# Altium footprint library 主控器件封装库.PcbLib: 24 footprints (part 2 of 2)
Each footprint in its own frame and in the unit in brackets; x right, y up, seen from the top. Pads: shape width x height; smd on the part's side, far side on the other; paste and mask are expansions set on the pad; w line width, h text height; cw(c..) or ccw(c..) is an arc to the next point about the centre after c.
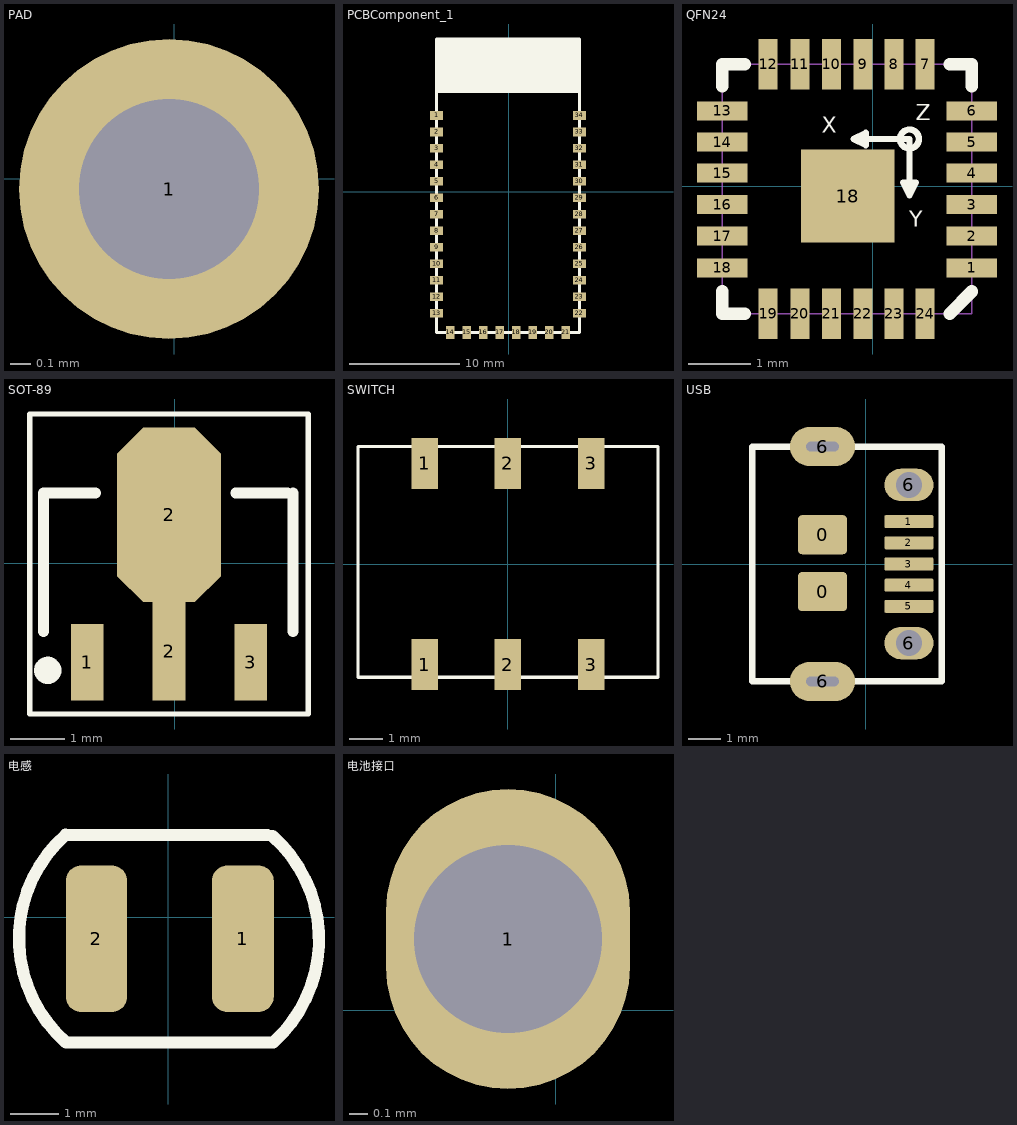
[diagram p1: the footprints below, top view; thin cyan lines are the x and y axes]

## PAD [mm]
pads (1):
  round 1.5 hole 0.9: 1(-0.025,-0.051)

## PCBComponent_1 [mm]
pads (34):
  rect 1.2x0.8 smd: 1(-6.576,6.954) 2(-6.576,5.454) 3(-6.576,3.954) 4(-6.576,2.454) 5(-6.576,0.954) 6(-6.576,-0.546) 7(-6.576,-2.046) 8(-6.576,-3.546) 9(-6.576,-5.046) 10(-6.576,-6.546) 11(-6.576,-8.046) 12(-6.576,-9.546) 13(-6.576,-11.046) 22(6.424,-11.046) 23(6.424,-9.546) 24(6.424,-8.046) 25(6.424,-6.546) 26(6.424,-5.046) 27(6.424,-3.546) 28(6.424,-2.046) 29(6.424,-0.546) 30(6.424,0.954) 31(6.424,2.454) 32(6.424,3.954) 33(6.424,5.454) 34(6.424,6.954)
  rect 0.8x1.2 smd: 14(-5.326,-12.796) 15(-3.826,-12.796) 16(-2.326,-12.796) 17(-0.826,-12.796) 18(0.674,-12.796) 19(2.174,-12.796) 20(3.674,-12.796) 21(5.174,-12.796)
Top Overlay:
  rectangle: -6.576,9.104 6.424,13.904
  lines w0.254: -6.576,9.104 6.424,9.104 ; -6.576,-12.796 -6.576,13.904 6.424,13.904 6.424,-12.796 -6.576,-12.796
3D body: height 4.31, standoff 0, extent -6.627,-12.827 6.373,14.173

## QFN24 [mil]
pads (25):
  rect 32x12 smd: 1(62.49,-51.74) 2(62.49,-31.74) 3(62.49,-11.74) 4(62.49,8.1) 5(62.49,27.79) 6(62.49,47.47) 13(-95.25,47.47) 14(-95.25,27.79) 15(-95.25,8.1) 16(-95.25,-11.74) 17(-95.25,-31.74) 18(-95.25,-51.74)
  rect 12x32 smd: 7(32.96,77) 8(13.28,77) 9(-6.41,77) 10(-26.25,77) 11(-46.25,77) 12(-66.25,77) 19(-66.25,-80.74) 20(-46.25,-80.74) 21(-26.25,-80.74) 22(-6.41,-80.74) 23(13.28,-80.74) 24(32.96,-80.74)
  rect 59.06x59.06 smd: 18(-16.01,-6.31)
Top Overlay:
  circle w4: c23.12,29.75 r6
  lines w4: -12.31,29.75 23.12,29.75 23.12,-5.74 ; -12.31,29.75 -4.44,33.69 -4.44,25.82 -12.31,29.75 ; 23.12,-5.74 27.06,2.2 19.18,2.2 23.12,-5.74
  lines w8: -95.25,-66.74 -95.25,-80.74 -81.25,-80.74 ; -95.25,63.22 -95.25,77 -81.25,77 ; 48.71,-80.74 62.49,-66.74 ; 48.71,77 62.49,77 62.49,63.22
  text "X" at -32.25,33.69 h10.2
  text "Y" at 23.12,-25.74 h10.2
  text "Z" at 27.06,41.57 h10.2
Mechanical 4:
Mechanical 16:
  lines w1: -95.25,-80.74 62.49,-80.74 62.49,77 -95.25,77 -95.25,-80.74
3D body: height 34.92, standoff -0.51, extent -90.37,-77.85 59.02,71.49

## SOT-89 [mm]
pads (4):
  rect 0.6x1.4 smd: 1(-1.605,-1.816) 3(1.395,-1.816)
  rect 0.6x1.8 smd: 2(-0.105,-1.616)
  oct 1.9x3.2 smd: 2(-0.105,0.884)
Top Overlay:
  circle w0.25: c-2.328,-1.966 r0.125
  lines w0.1: -2.655,-2.766 -2.655,2.734 2.445,2.734 2.445,-2.766 -2.655,-2.766
  lines w0.2: -2.405,-1.253 -2.405,1.284 -1.455,1.284 ; 1.118,1.284 2.068,1.284 ; 2.167,-1.253 2.167,1.284
3D body: height 1.51, standoff 0, extent -2.337,-2.099 2.163,2.201

## SWITCH [mil]
pads (6):
  rect 31.5x60 smd: 1(-98.43,-119) 1(-98.43,119) 2(0,-119) 2(0,119) 3(98.43,-119) 3(98.43,119)
Top Overlay:
  lines w3.94: -177.43,-134 177.57,-134 177.57,139 -177.43,139 -177.43,-134
3D body: height 214.57, standoff 0, extent -177.57,-133.65 178.72,138

## USB [mm]
pads (11):
  rrect20% 1.5x1.2 smd: 0(-1.325,-0.848) 0(-1.325,0.898)
  rrect20% 1.5x0.4 smd: 1(1.325,1.3) 2(1.325,0.65) 3(1.325,0) 4(1.325,-0.65) 5(1.325,-1.3)
  oval 2x1.2 hole 0.3 slot 1 at 0 deg: 6(-1.325,-3.6) 6(-1.325,3.6)
  oval 1.5x1 hole 0.8: 6(1.325,-2.425) 6(1.325,2.425)
Top Overlay:
  lines w0.2: -3.475,-3.6 2.325,-3.6 2.325,3.6 -3.475,3.6 -3.475,-3.6
3D body: height 2.8, standoff -0.95, extent -4.064,-4.001 1.536,4.001

## 电感 [mm]
pads (2):
  rrect50% 1.289x3.06 smd: 1(1.557,-0.445)
  rrect50% 1.27x3.06 smd: 2(-1.491,-0.445)
Top Overlay:
  lines w0.254: -2.133,1.722 ccw(c-0.217,-0.438) -2.126,-2.604 2.192,-2.604 ccw(c0.255,-0.462) 2.175,1.694 ; -2.126,1.714 2.065,1.714
3D body: height 3.3, standoff 0, extent -2.324,-2.47 2.095,1.53

## 电池接口 [mm]
pads (1):
  oval 1.3x1.6 hole 1: 1(-0.254,0.381)